# Altium schematic symbol library BB-HEADER-P20-P38.SchLib: 1 symbol
Pins are listed as number, name and electrical type; pins without a type are passive.

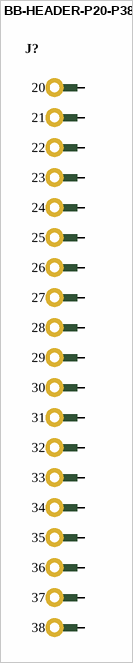
[diagram p0: symbol BB-HEADER-P20-P38]

## BB-HEADER-P20-P38
designator J?  (value not drawn)
BB Header, Vertical, Male, 0.1", 2.54mm, P20-P38
pins: 20, 21, 22, 23, 24, 25, 26, 27, 28, 29, 30, 31, 32, 33, 34, 35, 36, 37, 38